# EAGLE library part AT42QT1011 (library wheat)
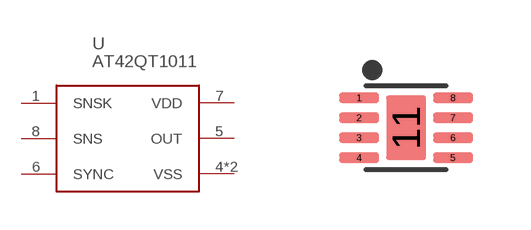
[diagram p214: symbol with the pads of QFN8_2X2_G; footprint QFN8_2X2_G]

Designator prefix -

## AT42QT1011  [QFN8_2X2_G]
1  SNSK
4  VSS
5  OUT
6  SYNC
7  VDD
8  SNS
11  VSS

## Footprint QFN8_2X2_G (pad centres in mm)
smd 1 x 0.25: 1 -1.175,0.75; 2 -1.175,0.25; 3 -1.175,-0.25; 4 -1.175,-0.75; 5 1.175,-0.75; 6 1.175,-0.25; 7 1.175,0.25; 8 1.175,0.75
smd 1 x 1.6: 11 0,0